# EAGLE library part 43045-0601 (library 43045-0601)
Micro-Fit 3.0 Right-Angle Header, 3.00mm Pitch, Dual Row, 6 Circuits, with Snap-in Plastic Peg PCB Lock Source: Datasheet <https://www.molex.com/pdm_docs/sd/430450200_sd.pdf>
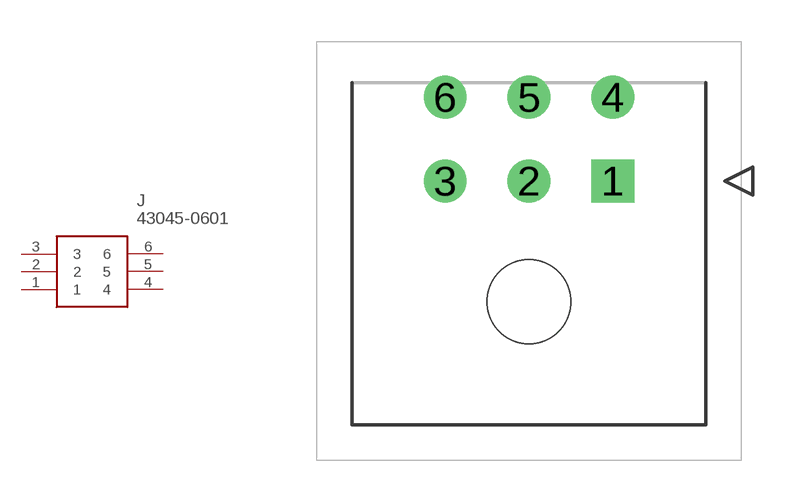
[diagram p0: symbol with the pads of 43045-06(00,01,02,10); footprint 43045-06(00,01,02,10)]

Designator prefix J

## 43045-0601 (Description: Micro-Fit 3.0 Right-Angle Header, 3.00mm Pitch, Dual Row, 6 Circuits, with Snap-in Plastic Peg PCB Lock; Height: 9.9mm; Manufacturer_Name: Molex; Manufacturer_Part_Number: 43045-0601)  [43045-06(00,01,02,10)]
1  1
2  2
3  3
4  4
5  5
6  6

## Footprint 43045-06(00,01,02,10) (pad centres in mm)
43045-06(00,01,02,10)
drill 1.02 pad 1.52 square: 1 0,0
drill 1.02 pad 1.52: 2 -3,0; 3 -6,0; 4 0,3; 5 -3,3; 6 -6,3
hole 3 at -3,-4.32